# Altium footprint library CONN-SPE-Keyst_1081.PcbLib: 1 footprints
Each footprint in its own frame and in the unit in brackets; x right, y up, seen from the top. Pads: shape width x height; smd on the part's side, far side on the other; paste and mask are expansions set on the pad; w line width, h text height; cw(c..) or ccw(c..) is an arc to the next point about the centre after c.
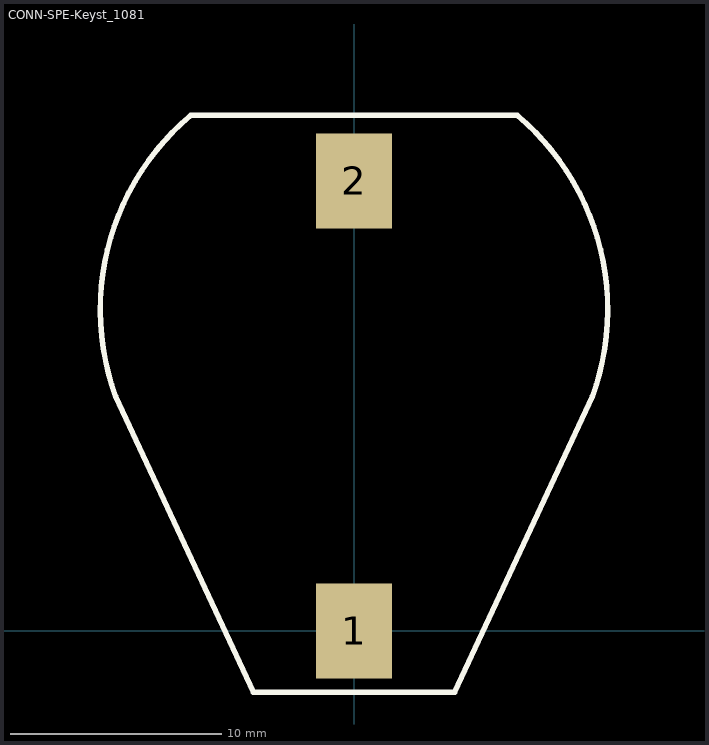
[diagram p0: the footprint, top view; thin cyan lines are the x and y axes]

## CONN-SPE-Keyst_1081 [mm] "battery holder 20mm"
height 0.254
pads (2):
  rect 3.6x4.5 smd: 1(0,0) 2(0,21.28)
Top Overlay:
  lines w0.254: -11.276,11.096 cw(c0,15.2) -7.713,24.393 7.713,24.393 cw(c0,15.2) 11.276,11.096 4.76,-2.9 -4.76,-2.9 -11.276,11.096
3D body: height 8.91, standoff 0.08, extent -11.181,-2.293 11.53,23.642